# Altium schematic symbol library Capacitor.SchLib: 190 symbols (part 2 of 2)
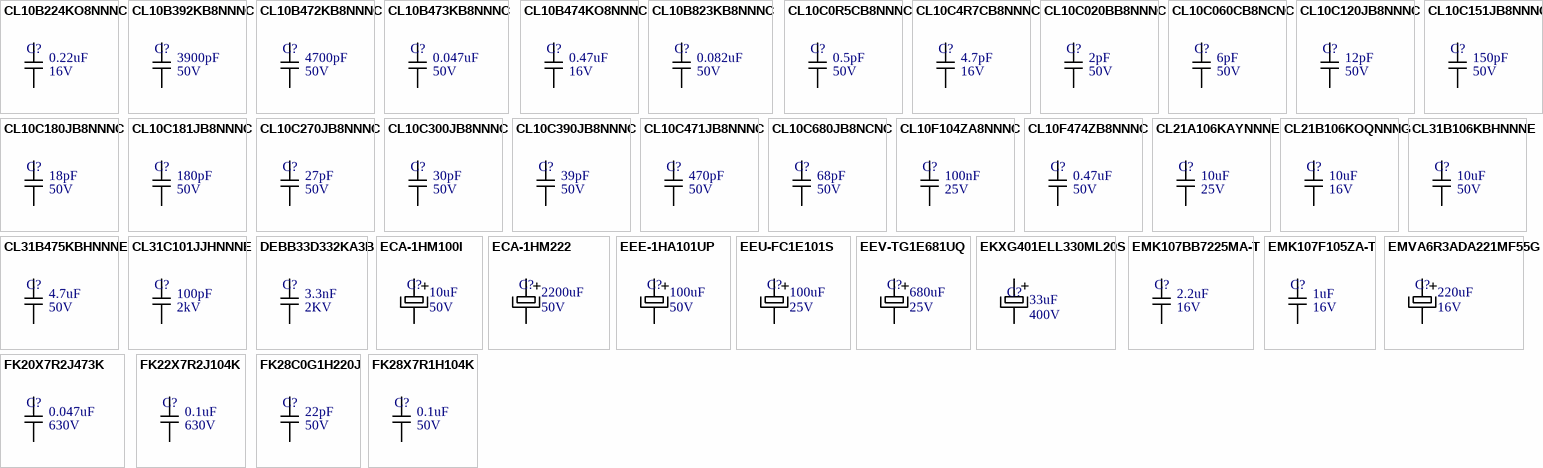
[diagram p5: symbols CL10B224KO8NNNC to FK28X7R1H104K]

## EMK107F105ZA-T
designator C?  value 1uF  Voltage: 16V  (hidden comment: EMK107F105ZA-T)
CAP CER 1UF 16V Y5V 0603; Manufacturer: Taiyo Yuden; Mount Type: SMD; Category: Ceramic; Dielectric: Y5V; Supplier 1: Mouser; Supplier 2: Digi-Key; Supplier 3: Farnell; Supplier 4: Newark; Supplier Part Number 1: 963-EMK107F105ZA-T; Supplier Part Number 2: 587-1262-1-ND; Supplier Part Number 3: 1213833; Supplier Part Number 4: 18J2658
footprint C0603_MD (Chip Capacitor, Body 1.6x0.8mm, IPC Medium Density)
pins: 1, 2

## EMVA6R3ADA221MF55G
designator C?  value 220uF  Voltage: 16V  (hidden comment: EMVA6R3ADA221MF55G)
CAP ALUM 220UF 6.3V 20% SMD; Manufacturer: Nichicon; Mount Type: SMD; Category: Aluminum; Supplier 1: Digi-Key; Supplier Part Number 1: 565-2058-1-ND
footprint CAP_EL_SMD_D (Capacitor Eletrolítico SMD Case D)
pins: +, -

## FK20X7R2J473K
designator C?  value 0.047uF  Voltage: 630V  (hidden comment: FK20X7R2J473K)
CAP CER 0.047UF 630V 10% RADIAL; Manufacturer: TDK Corporation; Dielectric: X7R; Mount Type: PTH; Category: Ceramic; Supplier 1: Newark; Supplier Part Number 1: 54W8137; Supplier 2: Mouser; Supplier Part Number 2: 810-FK20X7R2J473K; Supplier 3: Digi-Key; Supplier Part Number 3: 445-2646-ND
footprint CAP_CER_NP 0.2IN (Capacitor PTH)
pins: 1, 2

## FK22X7R2J104K
designator C?  value 0.1uF  Voltage: 630V  (hidden comment: FK22X7R2J104K)
CAP CER 0.1UF 630V 10% RADIAL; Manufacturer: TDK Corporation; Dielectric: X7R; Mount Type: PTH; Category: Ceramic
footprint CAP_CER_NP 0.2IN (Capacitor PTH)
pins: 1, 2

## FK28C0G1H220J
designator C?  value 22pF  Voltage: 50V  (hidden comment: FK28C0G1H220J)
CAP CER 22PF 50V 5% RADIAL; Manufacturer: TDK Corporation; Dielectric: NP0; Mount Type: PTH; Category: Ceramic
footprint CAP_CER_NP 0.2IN (Capacitor PTH)
pins: 1, 2

## FK28X7R1H104K
designator C?  value 0.1uF  Voltage: 50V  (hidden comment: FK28X7R1H104K)
CAP CER 0.1UF 50V 10% RADIAL; Manufacturer: TDK Corporation; Dielectric: X7R; Mount Type: PTH; Category: Ceramic; Supplier 1: Newark; Supplier Part Number 1: 44W8978; Supplier 2: Digi-Key; Supplier Part Number 2: 445-5258-ND; Supplier 3: Mouser; Supplier Part Number 3: 810-FK28X7R1H104K
footprint CAP_CER_NP 0.2IN (Capacitor PTH)
pins: 1, 2

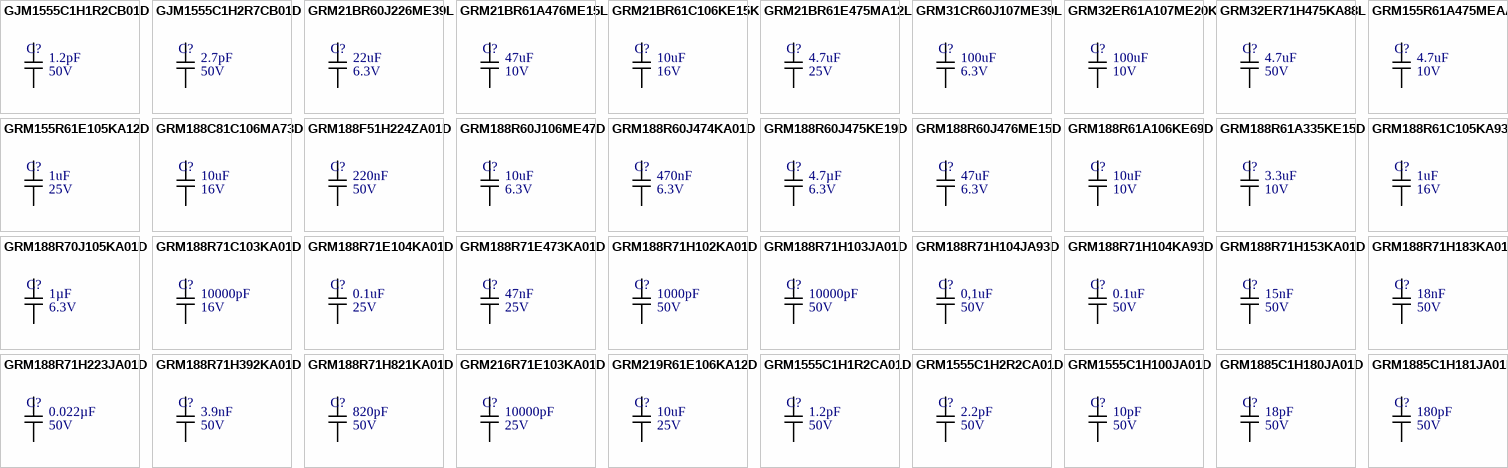
[diagram p3: symbols GJM1555C1H1R2CB01D to GRM1885C1H181JA01D]

## GJM1555C1H1R2CB01D
designator C?  value 1.2pF  Voltage: 50V  (hidden comment: GJM1555C1H1R2CB01D)
CAP CER 1.2PF 50V NP0 0402; Manufacturer: Murata Electronics North America; Mount Type: SMD; Category: Ceramic; Dielectric: NP0; Supplier 1: Digi-Key; Supplier Part Number 1: 490-3085-1-ND; Supplier 2: Mouser; Supplier Part Number 2: 81-GJM1555C1H1R2CB1D; Supplier 3: Newark; Supplier Part Number 3: 84W7938; Supplier 4: Farnell; Supplier Part Number 4: 2310300
footprint C0402_MD (Chip Capacitor, Body 1.0x0.5mm, IPC Medium Density)
pins: 1, 2

## GJM1555C1H2R7CB01D
designator C?  value 2.7pF  Voltage: 50V  (hidden comment: GJM1555C1H2R7CB01D)
CAP CER 2.7PF 50V NP0 0402; Manufacturer: Murata Electronics North America; Mount Type: SMD; Category: Ceramic; Dielectric: NP0; Supplier 1: Digi-Key; Supplier Part Number 1: 490-3093-2-ND; Supplier 2: Digi-Key; Supplier Part Number 2: 490-3093-1-ND
footprint C0402_MD (Chip Capacitor, Body 1.0x0.5mm, IPC Medium Density)
pins: 1, 2

## GRM21BR60J226ME39L
designator C?  value 22uF  Voltage: 6.3V  (hidden comment: GRM21BR60J226ME39L)
CAP CER 22UF 6.3V 20% X5R 0805; Manufacturer: Murata; Mount Type: SMD; Category: Ceramic; Dielectric: X5R; Supplier 1: Farnell; Supplier 2: Newark; Supplier 3: Mouser; Supplier 4: Arrow; Supplier 5: Digi-Key; Supplier Part Number 1: 1735531; Supplier Part Number 2: 96M1423; Supplier Part Number 3: 81-GRM21R60J226ME39L; Supplier Part Number 4: 41896953S6447286N2606; Supplier Part Number 5: 490-1719-1-ND
footprint C0805_MD (Chip Capacitor, Body 2.0x1.3mm, IPC Medium Density)
footprint C0805_HD (Chip Capacitor, Body 2.0x1.3mm, IPC High Density)
pins: 1, 2

## GRM21BR61A476ME15L
designator C?  value 47uF  Voltage: 10V  (hidden comment: GRM21BR61A476ME15L)
CAP CER 47UF 10V X5R 0805; Manufacturer: Murata Electronics North America; Mount Type: SMD; Category: Ceramic; Dielectric: X5R; Supplier 1: Farnell; Supplier Part Number 1: 2611939RL; Supplier 2: Arrow; Supplier Part Number 2: GRM21BR61A476ME15L; Supplier 3: Mouser; Supplier Part Number 3: 81-GRM21BR61A476ME5L; Supplier 4: Digikey; Supplier Part Number 4: 490-9961-1-ND
footprint C0805_MD (Chip Capacitor, Body 2.0x1.3mm, IPC Medium Density)
pins: 1, 2

## GRM21BR61C106KE15K
designator C?  value 10uF  Voltage: 16V  (hidden comment: GRM21BR61C106KE15K)
CAP CER 10UF 16V X5R 0805; Manufacturer: Murata Electronics North America; Mount Type: SMD; Category: CAP CER; Dielectric: X5R; Supplier 1: Arrow; Supplier Part Number 1: MfGS4s7yxupSyO3f7wKQyKzb4LVHSCb7zxwcFHm2v0jjRM-Xpb9FWQC1nzZCAqtM; Supplier 2: Digi-Key; Supplier Part Number 2: 490-6473-6-ND; Supplier 3: Newark; Supplier Part Number 3: 35R0687
footprint C0805_HD (Chip Capacitor, Body 2.0x1.3mm, IPC High Density)
pins: 1, 2

## GRM21BR61E475MA12L
designator C?  value 4.7uF  Voltage: 25V  (hidden comment: GRM21BR61E475MA12L)
CAP CER 4.7UF 25V 20% X5R 0805; Manufacturer: Murata; Mount Type: SMD; Category: Ceramic; Dielectric: X5R; Supplier 1: Mouser; Supplier 2: Digi-Key; Supplier Part Number 1: 81-GRM21BR61E475MA2L; Supplier Part Number 2: 490-5422-1-ND
footprint C0805_MD (Chip Capacitor, Body 2.0x1.3mm, IPC Medium Density)
pins: 1, 2

## GRM31CR60J107ME39L
designator C?  value 100uF  Voltage: 6.3V  (hidden comment: GRM31CR60J107ME39L)
CAP CER 100UF 6.3V X5R 1206; Manufacturer: Murata Electronics North America; Mount Type: SMD; Category: Ceramic; Dielectric: X5R; Supplier 1: Farnell; Supplier Part Number 1: 2611952; Supplier 2: Arrow; Supplier Part Number 2: de6w_qffGrrYJnmS_fkG9BmKuDLD2tI_UT6Z6bEXH9BirWDTtGmtott4fUuvrZ15; Supplier 3: Newark; Supplier Part Number 3: 24R6343; Supplier 4: Digi-Key; Supplier Part Number 4: 490-4539-1-ND
footprint C1206_MD (Chip Capacitor, Body 3.2x1.6mm, IPC Medium Density)
pins: 1, 2

## GRM32ER61A107ME20K
designator C?  value 100uF  Voltage: 10V  (hidden comment: GRM32ER61A107ME20K)
CAP CER 100UF 10V X5R 1210; Manufacturer: Murata Electronics North America; Mount Type: SMD; Category: Ceramic; Dielectric: X5R; Supplier 1: Digi-Key; Supplier Part Number 1: 490-14681-1-ND; Supplier 2: Mouser; Supplier Part Number 2: 81-GRM32ER61A107ME0K; Supplier 3: Arrow; Supplier Part Number 3: GRM32ER61A107ME20K; Supplier 4: Avnet; Supplier Part Number 4: GRM32ER61A107ME20K
footprint C1210_MD (Chip Capacitor, Body 3.2x2,5mm, IPC Medium Density)
pins: 1, 2

## GRM32ER71H475KA88L
designator C?  value 4.7uF  Voltage: 50V  (hidden comment: GRM32ER71H475KA88L)
CAP CER 4.7UF 50V 10% X7R 1210; Manufacturer: Yageo; Mount Type: SMD; Category: *; Dielectric: *; Supplier 1: Digi-Key; Supplier Part Number 1: 490-1864-1-ND
footprint C1210_MD (Chip Capacitor, Body 3.2x2,5mm, IPC Medium Density)
pins: 1, 2

## GRM155R61A475MEAAD
designator C?  value 4.7uF  Voltage: 10V  (hidden comment: GRM155R61A475MEAAD)
CAP CER 4.7UF 10V X5R 0402; Manufacturer: Murata Electronics; Mount Type: SMD; Category: Ceramic; Dielectric: X5R
footprint C0402_MD (Chip Capacitor, Body 1.0x0.5mm, IPC Medium Density)
pins: 1, 2

## GRM155R61E105KA12D
designator C?  value 1uF  Voltage: 25V  (hidden comment: GRM155R61E105KA12D)
CAP CER 1UF 25V X5R 0402; Manufacturer: Murata Electronics; Mount Type: SMD; Category: Ceramic; Dielectric: X5R
footprint C0402_MD (Chip Capacitor, Body 1.0x0.5mm, IPC Medium Density)
pins: 1, 2

## GRM188C81C106MA73D
designator C?  value 10uF  Voltage: 16V  (hidden comment: GRM188C81C106MA73D)
CAP CER 10UF 16V 20% X6S 0603; Manufacturer: Murata Electronics North America; Mount Type: SMD; Category: Ceramic; Dielectric: *; Supplier 1: Digi-Key; Supplier Part Number 1: 490-7198-1-ND
footprint C0603_MD (Chip Capacitor, Body 1.6x0.8mm, IPC Medium Density)
pins: 1, 2

## GRM188F51H224ZA01D
designator C?  value 220nF  Voltage: 50V  (hidden comment: GRM188F51H224ZA01D)
CAP CER 0.22UF 50V Y5V 0603; Manufacturer: Murata Electronics North America; Dielectric: Y5R; Mount Type: SMD; Category: Ceramic; Supplier 1: Mouser; Supplier 2: Digi-Key; Supplier Part Number 1: 81-GRM188F51H224ZA01; Supplier Part Number 2: 490-1569-1-ND
footprint C0603_MD (Chip Capacitor, Body 1.6x0.8mm, IPC Medium Density)
pins: 1, 2

## GRM188R60J106ME47D
designator C?  value 10uF  Voltage: 6.3V  (hidden comment: GRM188R60J106ME47D)
CAP CER 10UF 6.3V 20% X5R 0603; Manufacturer: Murata; Mount Type: SMD; Category: Ceramic; Dielectric: X5R; Supplier 1: Newark; Supplier 2: Mouser; Supplier 3: Farnell; Supplier 4: Digi-Key; Supplier Part Number 1: 24R6334; Supplier Part Number 2: 81-GRM188R60J106ME47; Supplier Part Number 3: 1833804; Supplier Part Number 4: 490-3896-1-ND
footprint C0603_MD (Chip Capacitor, Body 1.6x0.8mm, IPC Medium Density)
pins: 1, 2

## GRM188R60J474KA01D
designator C?  value 470nF  Voltage: 6.3V  (hidden comment: GRM188R60J474KA01D)
CAP CER 0.47UF 6.3V 10% X5R 0603; Manufacturer: Murata; Mount Type: SMD; Category: Ceramic; Dielectric: X5R; Supplier 1: Mouser; Supplier 2: Digi-Key; Supplier Part Number 1: 81-GRM188R60J474KA01; Supplier Part Number 2: 490-1548-1-ND
footprint C0603_MD (Chip Capacitor, Body 1.6x0.8mm, IPC Medium Density)
pins: 1, 2

## GRM188R60J475KE19D
designator C?  value 4.7µF  Voltage: 6.3V  (hidden comment: GRM188R60J475KE19D)
CAP CER 4.7UF 6.3V X5R 0603; Manufacturer: Murata Electronics North America; Mount Type: SMD; Category: Ceramic; Dielectric: X5R; Supplier 1: Digi-Key; Supplier Part Number 1: 490-3297-1-ND
footprint C0603_MD (Chip Capacitor, Body 1.6x0.8mm, IPC Medium Density)
pins: 1, 2

## GRM188R60J476ME15D
designator C?  value 47uF  Voltage: 6.3V  (hidden comment: GRM188R60J476ME15D)
CAP CER 47UF 6.3V X5R 0603; Manufacturer: Murata Electronics; Mount Type: SMD; Category: Ceramic; Dielectric: X5R
footprint C0603_MD (Chip Capacitor, Body 1.6x0.8mm, IPC Medium Density)
pins: 1, 2

## GRM188R61A106KE69D
designator C?  value 10uF  Voltage: 10V  (hidden comment: GRM188R61A106KE69D)
CAP CER 10UF 10V X5R 0603; Manufacturer: Murata Electronics North America; Mount Type: SMD; Category: Ceramic; Dielectric: X5R; Supplier 1: Newark; Supplier Part Number 1: 04X3243; Supplier 2: Arrow; Supplier Part Number 2: tmOXaZUOwqZwFBELsoaVEVsYh8deCocflpUOLM3SrSYdbDnzZoKbJoITPv75ptcC; Supplier 3: Farnell; Supplier Part Number 3: 2494233; Supplier 4: Digi-Key; Supplier Part Number 4: 490-10474-1-ND
footprint C0603_MD (Chip Capacitor, Body 1.6x0.8mm, IPC Medium Density)
pins: 1, 2

## GRM188R61A335KE15D
designator C?  value 3.3uF  Voltage: 10V  (hidden comment: GRM188R61A335KE15D)
CAP CER 3.3UF 10V 10% X5R 0603; Manufacturer: Murata; Mount Type: SMD; Category: Ceramic; Dielectric: X5R; Supplier 1: Digi-Key; Supplier 2: Mouser; Supplier Part Number 1: 490-6411-1-ND; Supplier Part Number 2: 81-GRM188R61A335KE5D
footprint C0603_MD (Chip Capacitor, Body 1.6x0.8mm, IPC Medium Density)
pins: 1, 2

## GRM188R61C105KA93D
designator C?  value 1uF  Voltage: 16V  (hidden comment: GRM188R61C105KA93D)
CAP CER 1UF 16V X5R 0603; Manufacturer: Murata Electronics North America; Mount Type: SMD; Category: Ceramic; Dielectric: X5R; Supplier 1: Digi-Key; Supplier Part Number 1: 490-1536-1-ND
footprint C0603_MD (Chip Capacitor, Body 1.6x0.8mm, IPC Medium Density)
pins: 1, 2

## GRM188R70J105KA01D
designator C?  value 1µF  Voltage: 6.3V  (hidden comment: GRM188R70J105KA01D)
CAP CER 1UF 6.3V X7R 0603; Manufacturer: Murata Electronics North America; Mount Type: SMD; Category: Ceramic; Dielectric: X7R; Supplier 1: Digi-Key; Supplier Part Number 1: 490-3898-1-ND
footprint C0603_MD (Chip Capacitor, Body 1.6x0.8mm, IPC Medium Density)
pins: 1, 2

## GRM188R71C103KA01D
designator C?  value 10000pF  Voltage: 16V  (hidden comment: GRM188R71C103KA01D)
CAP CER 10000PF 16V 10% X7R 0603; Manufacturer: Murata; Mount Type: SMD; Category: Ceramic; Dielectric: X7R; Supplier 1: Mouser; Supplier 2: Digi-Key; Supplier Part Number 1: 81-GRM18R71C103KA01D; Supplier Part Number 2: 490-1525-1-ND
footprint C0603_MD (Chip Capacitor, Body 1.6x0.8mm, IPC Medium Density)
pins: 1, 2

## GRM188R71E104KA01D
designator C?  value 0.1uF  Voltage: 25V  (hidden comment: GRM188R71E104KA01D)
CAP CER 0.1UF 25V X7R 0603; Manufacturer: Murata Electronics North America; Mount Type: SMD; Category: Ceramic; Dielectric: X7R; Supplier 1: Digi-Key; Supplier Part Number 1: 490-1524-1-ND
footprint C0603_MD (Chip Capacitor, Body 1.6x0.8mm, IPC Medium Density)
pins: 1, 2

## GRM188R71E473KA01D
designator C?  value 47nF  Voltage: 25V  (hidden comment: GRM188R71E473KA01D)
CAP CER 0.047UF 25V 10% X7R 0603; Manufacturer: Murata; Mount Type: SMD; Category: Ceramic; Dielectric: X7R; Supplier 1: Newark; Supplier 2: Mouser; Supplier 3: Farnell; Supplier 4: Digi-Key; Supplier Part Number 1: 38K1667; Supplier Part Number 2: 81-GRM39X473K25D; Supplier Part Number 3: 1118180; Supplier Part Number 4: 490-1522-1-ND
footprint C0603_MD (Chip Capacitor, Body 1.6x0.8mm, IPC Medium Density)
pins: 1, 2

## GRM188R71H102KA01D
designator C?  value 1000pF  Voltage: 50V  (hidden comment: GRM188R71H102KA01D)
CAP CER 1000PF 50V 10% X7R 0603; Manufacturer: Murata Electronics North America; Mount Type: SMD; Category: Ceramic; Dielectric: X7R; Supplier 1: Digi-Key; Supplier 2: Farnell; Supplier 3: Mouser; Supplier 4: Newark; Supplier Part Number 1: 490-1494-1-ND; Supplier Part Number 2: 2280879; Supplier Part Number 3: 81-GRM39X102K050; Supplier Part Number 4: 09J2480
footprint C0603_MD (Chip Capacitor, Body 1.6x0.8mm, IPC Medium Density)
pins: 1, 2

## GRM188R71H103JA01D
designator C?  value 10000pF  Voltage: 50V  (hidden comment: GRM188R71H103JA01D)
CAP CER 10000PF 50V X7R 0603; Manufacturer: Murata Electronics North America; Mount Type: SMD; Category: Ceramic; Dielectric: X7R; Supplier 1: Digi-Key; Supplier Part Number 1: 490-9734-1-ND
footprint C0603_MD (Chip Capacitor, Body 1.6x0.8mm, IPC Medium Density)
pins: 1, 2

## GRM188R71H104JA93D
designator C?  value 0,1uF  Voltage: 50V  (hidden comment: GRM188R71H104JA93D)
CAP CER 0.1UF 50V X7R 0603; Manufacturer: Murata Electronics North America; Mount Type: SMD; Category: Ceramic; Dielectric: X7R; Supplier 1: Digi-Key; Supplier Part Number 1: 490-13406-1-ND
footprint C0603_MD (Chip Capacitor, Body 1.6x0.8mm, IPC Medium Density)
pins: 1, 2

## GRM188R71H104KA93D
designator C?  value 0.1uF  Voltage: 50V  (hidden comment: GRM188R71H104KA93D)
CAP CER 0.1UF 50V 10% X7R 0603; Manufacturer: Murata; Mount Type: SMD; Category: Ceramic; Dielectric: X7R; Supplier 1: Newark; Supplier 2: Digi-Key; Supplier 3: Farnell; Supplier 4: Mouser; Supplier Part Number 1: 38K1670; Supplier Part Number 2: 490-1519-1-ND; Supplier Part Number 3: 1856385; Supplier Part Number 4: 81-GRM39X104K50D
footprint C0603_MD (Chip Capacitor, Body 1.6x0.8mm, IPC Medium Density)
pins: 1, 2

## GRM188R71H153KA01D
designator C?  value 15nF  Voltage: 50V  (hidden comment: GRM188R71H153KA01D)
CAP CER 0.015UF 50V 10% X7R 0603; Manufacturer: Murata; Mount Type: SMD; Category: Ceramic; Dielectric: X7R; Supplier 1: Farnell; Supplier 2: Digi-Key; Supplier 3: Mouser; Supplier 4: Newark; Supplier Part Number 1: 1828916; Supplier Part Number 2: 490-1514-1-ND; Supplier Part Number 3: 81-GRM18R71H153KA01D; Supplier Part Number 4: 14T3321
footprint C0603_MD (Chip Capacitor, Body 1.6x0.8mm, IPC Medium Density)
pins: 1, 2

## GRM188R71H183KA01D
designator C?  value 18nF  Voltage: 50V  (hidden comment: GRM188R71H183KA01D)
CAP CER 0.018UF 50V 10% X7R 0603; Manufacturer: Murata; Mount Type: SMD; Category: Ceramic; Dielectric: X7R; Supplier 1: Digi-Key; Supplier 2: Mouser; Supplier Part Number 1: 490-1516-1-ND; Supplier Part Number 2: 81-GRM39X183K50D
footprint C0603_MD (Chip Capacitor, Body 1.6x0.8mm, IPC Medium Density)
pins: 1, 2

## GRM188R71H223JA01D
designator C?  value 0.022µF  Voltage: 50V  (hidden comment: GRM188R71H223JA01D)
CAP CER 0.022UF 50V X7R 0603; Manufacturer: Murata Electronics North America; Mount Type: SMD; Category: Ceramic; Dielectric: X7R; Supplier 1: Digi-Key; Supplier Part Number 1: 490-14377-1-ND
footprint C0603_MD (Chip Capacitor, Body 1.6x0.8mm, IPC Medium Density)
pins: 1, 2

## GRM188R71H392KA01D
designator C?  value 3.9nF  Voltage: 50V  (hidden comment: GRM188R71H392KA01D)
CAP CER 3900PF 50V 10% X7R 0603; Manufacturer: Murata; Mount Type: SMD; Category: Ceramic; Dielectric: X7R; Supplier 1: Digi-Key; Supplier 2: Mouser; Supplier Part Number 1: 490-1504-1-ND; Supplier Part Number 2: 81-GRM39X392K50D
footprint C0603_MD (Chip Capacitor, Body 1.6x0.8mm, IPC Medium Density)
pins: 1, 2

## GRM188R71H821KA01D
designator C?  value 820pF  Voltage: 50V  (hidden comment: GRM188R71H821KA01D)
CAP CER 820PF 50V 10% X7R 0603; Manufacturer: Murata; Mount Type: SMD; Category: Ceramic; Dielectric: X7R; Supplier 1: Digi-Key; Supplier 2: Mouser; Supplier Part Number 1: 490-1493-1-ND; Supplier Part Number 2: 81-GRM39X821K50D
footprint C0603_MD (Chip Capacitor, Body 1.6x0.8mm, IPC Medium Density)
pins: 1, 2

## GRM216R71E103KA01D
designator C?  value 10000pF  Voltage: 25V  (hidden comment: GRM216R71E103KA01D)
CAP CER 10000PF 25V X7R 0805; Manufacturer: Murata Electronics North America; Mount Type: SMD; Category: Capacitor; Dielectric: X7R; Supplier 1: Digi-Key; Supplier Part Number 1: 490-12748-6-ND
footprint C0805_HD (Chip Capacitor, Body 2.0x1.3mm, IPC High Density)
pins: 1, 2

## GRM219R61E106KA12D
designator C?  value 10uF  Voltage: 25V  (hidden comment: GRM219R61E106KA12D)
CAP CER 10UF 25V 10% X5R 0805; Manufacturer: Murata; Mount Type: SMD; Category: Ceramic; Dielectric: X5R; Supplier 1: Digi-Key; Supplier Part Number 1: 490-7207-1-ND
footprint C0805_MD (Chip Capacitor, Body 2.0x1.3mm, IPC Medium Density)
pins: 1, 2

## GRM1555C1H1R2CA01D
designator C?  value 1.2pF  Voltage: 50V  (hidden comment: GRM1555C1H1R2CA01D)
CAP CER 1.2PF 50V NP0 0402; Manufacturer: Murata Electronics North America; Mount Type: SMD; Category: Ceramic; Dielectric: NP0; Supplier 1: Newark; Supplier Part Number 1: 48W5733; Supplier 2: Digi-Key; Supplier Part Number 2: 490-5927-1-ND; Supplier 3: Farnell; Supplier Part Number 3: 2218843; Supplier 4: Mouser; Supplier Part Number 4: 81-GRM1555C1H1R2CA1D
footprint C0402_HD (Chip Capacitor, Body 1.0x0.5mm, IPC High Density)
pins: 1, 2

## GRM1555C1H2R2CA01D
designator C?  value 2.2pF  Voltage: 50V  (hidden comment: GRM1555C1H2R2CA01D)
CAP CER 2.2PF 50V NP0 0402; Manufacturer: Murata Electronics North America; Mount Type: SMD; Category: Ceramic; Dielectric: NP0; Supplier 1: Farnell; Supplier Part Number 1: 2434609; Supplier 2: Newark; Supplier Part Number 2: 80X8562; Supplier 3: Mouser; Supplier Part Number 3: 81-GRM1555C1H2R2CA1D; Supplier 4: Digi-Key; Supplier Part Number 4: 490-5932-1-ND
footprint C0402_HD (Chip Capacitor, Body 1.0x0.5mm, IPC High Density)
pins: 1, 2

## GRM1555C1H100JA01D
designator C?  value 10pF  Voltage: 50V  (hidden comment: GRM1555C1H100JA01D)
CAP CER 10PF 50V C0G/NP0 0402; Manufacturer: Murata Electronics North America; Dielectric: X5R; Mount Type: SMD; Category: Ceramic; Supplier 1: Arrow; Supplier 2: Digi-Key; Supplier 3: Newark; Supplier 4: Farnell; Supplier Part Number 1: GRM1555C1H100JA01D**MULT; Supplier Part Number 2: 490-5921-1-ND; Supplier Part Number 3: 48W5737; Supplier Part Number 4: 2218834
footprint C0402_MD (Chip Capacitor, Body 1.0x0.5mm, IPC Medium Density)
pins: 1, 2

## GRM1885C1H180JA01D
designator C?  value 18pF  Voltage: 50V  (hidden comment: GRM1885C1H180JA01D)
CAP CER 18PF 50V C0G/NP0 0603; Manufacturer: Murata Electronics North America; Dielectric: C0G, NP0; Mount Type: SMD; Category: Ceramic; Supplier 1: Digi-Key; Supplier Part Number 1: 490-1409-1-ND
footprint C0603_MD (Chip Capacitor, Body 1.6x0.8mm, IPC Medium Density)
pins: 1, 2

## GRM1885C1H181JA01D
designator C?  value 180pF  Voltage: 50V  (hidden comment: GRM1885C1H181JA01D)
CAP CER 180PF 50V 5% NP0 0603; Manufacturer: Murata; Mount Type: SMD; Category: Ceramic; Dielectric: NP0; Supplier 1: Mouser; Supplier 2: Digi-Key; Supplier Part Number 1: 81-GRM39C181J50; Supplier Part Number 2: 490-1433-1-ND
footprint C0603_MD (Chip Capacitor, Body 1.6x0.8mm, IPC Medium Density)
pins: 1, 2

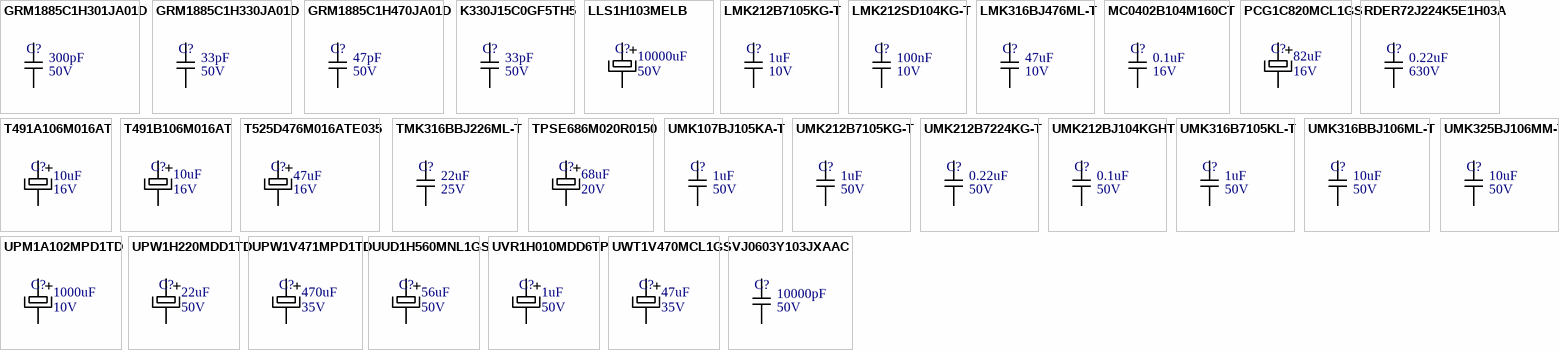
[diagram p4: symbols GRM1885C1H301JA01D to VJ0603Y103JXAAC]

## GRM1885C1H301JA01D
designator C?  value 300pF  Voltage: 50V  (hidden comment: GRM1885C1H301JA01D)
CAP CER 300PF 50V 5% NP0 0603; Manufacturer: Murata Electronics North America; Mount Type: SMD; Category: Ceramic; Dielectric: *; Supplier 1: Digi-Key; Supplier Part Number 1: 490-1438-1-ND
footprint C0603_MD (Chip Capacitor, Body 1.6x0.8mm, IPC Medium Density)
pins: 1, 2

## GRM1885C1H330JA01D
designator C?  value 33pF  Voltage: 50V  (hidden comment: GRM1885C1H330JA01D)
CAP CER 33PF 50V 5% NP0 0603; Manufacturer: Murata; Mount Type: SMD; Category: Ceramic; Dielectric: NP0; Supplier 1: Newark; Supplier 2: Mouser; Supplier 3: Digi-Key; Supplier 4: Farnell; Supplier Part Number 1: 14T3332; Supplier Part Number 2: 81-GRM39C330J50; Supplier Part Number 3: 490-1415-1-ND; Supplier Part Number 4: 1828910
footprint C0603_MD (Chip Capacitor, Body 1.6x0.8mm, IPC Medium Density)
pins: 1, 2

## GRM1885C1H470JA01D
designator C?  value 47pF  Voltage: 50V  (hidden comment: GRM1885C1H470JA01D)
CAP CER 47PF 50V 5% NP0 0603; Manufacturer: Murata Electronics North America; Mount Type: SMD; Category: Ceramic; Dielectric: *; Supplier 1: Digi-Key; Supplier Part Number 1: 490-1419-1-ND
footprint C0603_MD (Chip Capacitor, Body 1.6x0.8mm, IPC Medium Density)
pins: 1, 2

## K330J15C0GF5TH5
designator C?  value 33pF  Voltage: 50V  (hidden comment: K330J15C0GF5TH5)
CAP CER 33PF 50V NP0 RADIAL; Manufacturer: Vishay BC Components; Mount Type: PTH; Category: Ceramic Capacitors; Dielectric: NP0; Supplier 1: Farnell; Supplier 2: Newark; Supplier 3: Mouser; Supplier 4: Digi-Key; Supplier Part Number 1: 3322610; Supplier Part Number 2: 95C1045; Supplier Part Number 3: 594-K330J15C0GF5TH5; Supplier Part Number 4: BC1036CT-ND
footprint CAP_CER_DISK 0.1 (Capacitor PTH)
pins: 1, 2

## LLS1H103MELB
designator C?  value 10000uF  Voltage: 50V  (hidden comment: LLS1H103MELB)
10000µF 50V Aluminum Capacitors Radial, Can - Snap-In 3000 Hrs @ 85°C; Manufacturer: Nichicon; Mount Type: PTH; Category: Aluminum; Supplier 1: Farnell; Supplier Part Number 1: 2333492; Supplier 2: Newark; Supplier Part Number 2: 97M5106; Supplier 3: Digi-Key; Supplier Part Number 3: 493-6156-ND
footprint CAP_EL_10X30.0MM (Capacitor Eletrolítico PTH)
pins: +, -

## LMK212B7105KG-T
designator C?  value 1uF  Voltage: 10V  (hidden comment: LMK212B7105KG-T)
CAP CER 1UF 10V 10% X7R 0805; Manufacturer: Taiyo Yuden; Mount Type: SMD; Category: Ceramic; Dielectric: X7R; Supplier 1: Digi-Key; Supplier 2: Newark; Supplier 3: Farnell; Supplier 4: Mouser; Supplier Part Number 1: 587-1285-1-ND; Supplier Part Number 2: 77M8470; Supplier Part Number 3: 1683678; Supplier Part Number 4: N/A
footprint C0805_HD (Chip Capacitor, Body 2.0x1.3mm, IPC High Density)
footprint C0805_MD (Chip Capacitor, Body 2.0x1.3mm, IPC Medium Density)
pins: 1, 2

## LMK212SD104KG-T
designator C?  value 100nF  Voltage: 10V  (hidden comment: LMK212SD104KG-T)
CAP CER 0.1UF 10V 10% 0805; Manufacturer: Taiyo Yuden; Mount Type: SMD; Category: Ceramic; Dielectric: *
footprint C0805_HD (Chip Capacitor, Body 2.0x1.3mm, IPC High Density)
footprint C0805_MD (Chip Capacitor, Body 2.0x1.3mm, IPC Medium Density)
pins: 1, 2

## LMK316BJ476ML-T
designator C?  value 47uF  Voltage: 10V  (hidden comment: LMK316BJ476ML-T)
CAP CER 47UF 10V X5R 1206; Manufacturer: Taiyo Yuden; Mount Type: SMD; Category: Ceramic; Dielectric: X5R; Supplier 1: Digikey; Supplier Part Number 1: 587-1780-1-ND; Supplier 2: Newark; Supplier Part Number 2: 42M3489; Supplier 3: Mouser; Supplier Part Number 3: 963-LMK316BJ476ML-T; Supplier 4: Arrow; Supplier Part Number 4: LMK316BJ476ML-T**MULT1; Supplier 5: Farnell; Supplier Part Number 5: 2363427
footprint C1206_MD (Chip Capacitor, Body 3.2x1.6mm, IPC Medium Density)
pins: 1, 2

## MC0402B104M160CT
designator C?  value 0.1uF  Voltage: 16V  (hidden comment: MC0402B104M160CT)
CAP, 0.1µF, 16V, 20%, X7R, 0402; Manufacturer: MULTICOMP PRO; Tolerance: +-20%; Mount Type: SMD; Category: Ceramic; Dielectric: X7R; Supplier 1: Newark; Supplier Part Number 1: 97Y2073
footprint C0402_MD (Chip Capacitor, Body 1.0x0.5mm, IPC Medium Density)
pins: 1, 2

## PCG1C820MCL1GS
designator C?  value 82uF  Voltage: 16V  (hidden comment: PCG1C820MCL1GS)
CAP ALUM 82UF 16V 20% SMD; Manufacturer: Nichicon; Mount Type: SMD; Category: Aluminum; Supplier 1: Digi-Key; Supplier Part Number 1: 493-3096-1-ND
footprint CAP_EL_SMD_D (Capacitor Eletrolítico SMD Case D)
pins: +, -

## RDER72J224K5E1H03A
designator C?  value 0.22uF  Voltage: 630V  (hidden comment: RDER72J224K5E1H03A)
CAP CER 0.22UF 630V 10% RADIAL; Manufacturer: Murata Electronics North America; Dielectric: X7R; Mount Type: PTH; Category: Ceramic; Supplier 1: Mouser; Supplier Part Number 1: 81-RDER72J224K5E1H3A; Supplier 2: Digi-Key; Supplier Part Number 2: 490-9264-1-ND
footprint CAP_CER_NP 0.2IN (Capacitor PTH)
pins: 1, 2

## T491A106M016AT
designator C?  value 10uF  Voltage: 16V  (hidden comment: T491A106M016AT)
CAP TANT 10UF 16V 20% 1206; Manufacturer: Kemet; Mount Type: SMD; Category: Tantalum; Dielectric: *; Supplier 1: Digi-Key; Supplier Part Number 1: 399-3687-1-ND
footprint CAP_TANT_SMD_A (Capacitor Tantalo SMD Case A)
pins: +, -

## T491B106M016AT
designator C?  value 10uF  Voltage: 16V  (hidden comment: T491B106M016AT)
CAP TANT 10UF 16V 20% 1411; Manufacturer: Kemet; Mount Type: SMD; Category: Tantalum; Supplier 1: Digi-Key; Supplier 2: Mouser; Supplier 3: Newark; Supplier Part Number 1: 399-3708-1-ND; Supplier Part Number 2: 80-T491B106M016; Supplier Part Number 3: 57K1745
footprint CAP_TANT_SMD_B (Capacitor Tantalo SMD Case B)
pins: +, -

## T525D476M016ATE035
designator C?  value 47uF  Voltage: 16V  (hidden comment: T525D476M016ATE035)
CAP TANT POLY 47UF 16V 2917 35 mOhm; Manufacturer: KEMET; Mount Type: SMD; Category: TANT POLY; Dielectric: TANT; Supplier 1: Newark; Supplier Part Number 1: 87H4643; Supplier 2: Digi-Key; Supplier Part Number 2: 399-3284-1-ND
footprint CAP_TANT_SMD_E (Capacitor Tantalo SMD Case E)
pins: +, -

## TMK316BBJ226ML-T
designator C?  value 22uF  Voltage: 25V  (hidden comment: TMK316BBJ226ML-T)
CAP CER 22UF 25V 20% X5R 1206; Manufacturer: Taiyo Yuden; Mount Type: SMD; Category: Ceramic; Dielectric: *; Supplier 1: Digi-Key; Supplier Part Number 1: 587-3246-1-ND
footprint C1206_MD (Chip Capacitor, Body 3.2x1.6mm, IPC Medium Density)
pins: 1, 2

## TPSE686M020R0150
designator C?  value 68uF  Voltage: 20V  (hidden comment: TPSE686M020R0150)
CAP TANT 68UF 20V 20% 2917; Manufacturer: AVX Corporation; Mount Type: SMD; Category: CAP TANT; Supplier 1: Digi-Key; Supplier Part Number 1: 478-4151-2-ND
footprint CAP_TANT_SMD_E (Capacitor Tantalo SMD Case E)
pins: +, -

## UMK107BJ105KA-T
designator C?  value 1uF  Voltage: 50V  (hidden comment: UMK107BJ105KA-T)
CAP CER 1UF 50V 10% X5R 0603; Manufacturer: Taiyo Yuden; Mount Type: SMD; Category: *; Dielectric: *; Supplier 1: Digi-Key; Supplier Part Number 1: 587-2400-1-ND
footprint C0603_MD (Chip Capacitor, Body 1.6x0.8mm, IPC Medium Density)
pins: 1, 2

## UMK212B7105KG-T
designator C?  value 1uF  Voltage: 50V  (hidden comment: UMK212B7105KG-T)
CAP CER 1UF 50V X7R 0805; Manufacturer: Taiyo Yuden; Mount Type: SMD; Category: Ceramic Capacitor; Dielectric: X7R; Supplier 1: Digi-Key; Supplier Part Number 1: 587-2910-1-ND; Supplier 2: Farnell; Supplier Part Number 2: 2464630; Supplier 3: Newark; Supplier Part Number 3: 47T1712
footprint C0805_HD (Chip Capacitor, Body 2.0x1.3mm, IPC High Density)
pins: 1, 2

## UMK212B7224KG-T
designator C?  value 0.22uF  Voltage: 50V  (hidden comment: UMK212B7224KG-T)
CAP CER 0.22UF 50V X7R 0805; Manufacturer: Taiyo Yuden; Dielectric: CERAMIC; Mount Type: SMD; Category: X7R; Supplier 1: Farnell; Supplier Part Number 1: 2392359; Supplier 2: Digi-Key; Supplier Part Number 2: 587-1287-6-ND; Supplier 3: Farnell; Supplier Part Number 3: 2666568
footprint C0805_MD (Chip Capacitor, Body 2.0x1.3mm, IPC Medium Density)
pins: 1, 2

## UMK212BJ104KGHT
designator C?  value 0.1uF  Voltage: 50V  (hidden comment: UMK212BJ104KGHT)
CAP CER 0.1UF 50V X5R 0805; Manufacturer: Taiyo Yuden; Mount Type: SMD; Category: Ceramic Capacitor; Dielectric: X5R; Supplier 1: Newark; Supplier Part Number 1: 68X1782; Supplier 2: Digi-Key; Supplier Part Number 2: 587-3512-1-ND
footprint C0805_MD (Chip Capacitor, Body 2.0x1.3mm, IPC Medium Density)
pins: 1, 2

## UMK316B7105KL-T
designator C?  value 1uF  Voltage: 50V  (hidden comment: UMK316B7105KL-T)
CAP CER 1UF 50V X7R 1206; Manufacturer: Taiyo Yuden; Mount Type: SMD; Category: CAP; Dielectric: CER; Supplier 1: Farnell; Supplier Part Number 1: 1458913; Supplier 2: Newark; Supplier Part Number 2: 84R9164; Supplier 3: Digi-Key; Supplier Part Number 3: 587-2230-1-ND
footprint C1206_MD (Chip Capacitor, Body 3.2x1.6mm, IPC Medium Density)
pins: 1, 2

## UMK316BBJ106ML-T
designator C?  value 10uF  Voltage: 50V  (hidden comment: UMK316BBJ106ML-T)
CAP CER 10UF 50V X5R 1206; Manufacturer: Taiyo Yuden; Mount Type: SMD; Category: Capacitor; Dielectric: CER; Supplier 1: Digi-Key; Supplier Part Number 1: 587-3248-1-ND; Supplier 2: Digi-Key; Supplier Part Number 2: 587-3248-6-ND; Supplier 3: Farnell; Supplier Part Number 3: 2779059; Supplier 4: Newark; Supplier Part Number 4: 29X1409
footprint C1210_MD (Chip Capacitor, Body 3.2x2,5mm, IPC Medium Density)
footprint C1206_MD (Chip Capacitor, Body 3.2x1.6mm, IPC Medium Density)
pins: 1, 2

## UMK325BJ106MM-T
designator C?  value 10uF  Voltage: 50V  (hidden comment: UMK325BJ106MM-T)
CAP CER 10UF 50V X5R 1210; Manufacturer: Taiyo Yuden; Mount Type: SMD; Category: Capacitor; Dielectric: CER; Supplier 1: Newark; Supplier Part Number 1: 08P5202; Supplier 2: Farnell; Supplier Part Number 2: 1683595; Supplier 3: Digi-Key; Supplier Part Number 3: 587-2225-6-ND
footprint C1210_MD (Chip Capacitor, Body 3.2x2,5mm, IPC Medium Density)
pins: 1, 2

## UPM1A102MPD1TD
designator C?  value 1000uF  Voltage: 10V  (hidden comment: UPM1A102MPD1TD)
CAP ALUM 1000UF 20% 10V RADIAL; Manufacturer: Nichicon; Mount Type: PTH; Category: Eletrolitical; Supplier 1: Newark; Supplier 2: Farnell; Supplier 3: Digi-Key; Supplier Part Number 1: 65R3529; Supplier Part Number 2: 2479369; Supplier Part Number 3: 493-11904-1-ND
footprint CAP_EL_7.5X16.0MM (Capacitor Eletrolítico PTH)
pins: +, -

## UPW1H220MDD1TD
designator C?  value 22uF  Voltage: 50V  (hidden comment: UPW1H220MDD1TD)
CAP ALUM 22UF 20% 50V RADIAL; Manufacturer: Nichicon; Mount Type: PTH; Category: Eletrolitical; Supplier 1: Newark; Supplier 2: Mouser; Supplier 3: Digi-Key; Supplier Part Number 1: 65R4110; Supplier Part Number 2: 647-UPW1H220MDD1TD; Supplier Part Number 3: 493-11357-1-ND
footprint CAP_EL_2.0x5.0MM (Capacitor Eletrolítico PTH)
pins: +, -

## UPW1V471MPD1TD
designator C?  value 470uF  Voltage: 35V  (hidden comment: UPW1V471MPD1TD)
CAP ALUM 470UF 20% 35V RADIAL; Manufacturer: Nichicon; Mount Type: PTH; Category: Eletrolitical; Supplier 1: Farnell; Supplier 2: Newark; Supplier 3: Mouser; Supplier 4: Digi-Key; Supplier Part Number 1: 1818654; Supplier Part Number 2: 65R4249; Supplier Part Number 3: 647-UPW1V471MPD1TD; Supplier Part Number 4: 493-11916-1-ND
footprint CAP_EL_5X10MM (Capacitor Eletrolítico PTH)
pins: +, -

## UUD1H560MNL1GS
designator C?  value 56uF  Voltage: 50V  (hidden comment: UUD1H560MNL1GS)
56µF 50V Aluminum Capacitors Radial, Can - SMD 5000 Hrs @ 105°C; Manufacturer: Nichicon; Mount Type: SMD; Category: Aluminum; Supplier 1: Newark; Supplier Part Number 1: 55K1056; Supplier 2: Digi-Key; Supplier Part Number 2: 493-2304-1-ND
footprint CAP_EL_SMD_F (Capacitor Eletrolítico SMD Case F)
pins: +, -

## UVR1H010MDD6TP
designator C?  value 1uF  Voltage: 50V  (hidden comment: UVR1H010MDD6TP)
CAP ALUM 1UF 20% 50V RADIAL; Manufacturer: Nichicon; Mount Type: PTH; Category: Aluminum Capacitors; Supplier 1: Digi-Key; Supplier 2: Mouser; Supplier Part Number 1: 493-12782-1-ND; Supplier Part Number 2: 647-UVR1H010MDD6TP
footprint CAP_EL_2.0x5.0MM (Capacitor Eletrolítico PTH)
pins: +, -

## UWT1V470MCL1GS
designator C?  value 47uF  Voltage: 35V  (hidden comment: UWT1V470MCL1GS)
47µF 35V Aluminum Capacitors Radial, Can - SMD 1000 Hrs @ 105°C; Manufacturer: Nichicon; Mount Type: SMD; Category: Aluminum; Supplier 1: Digi-Key; Supplier Part Number 1: 493-2202-1-ND; Supplier 2: Newark; Supplier Part Number 2: 58R3600; Supplier 3: Farnell; Supplier Part Number 3: 1823602
footprint CAP_EL_SMD_D (Capacitor Eletrolítico SMD Case D)
pins: +, -

## VJ0603Y103JXAAC
designator C?  value 10000pF  Voltage: 50V  (hidden comment: VJ0603Y103JXAAC)
CAP CER 10000PF 50V X7R 0603; Manufacturer: Vishay Vitramon; Mount Type: SMD; Category: Cap Ceramic; Dielectric: X7R; Supplier 1: Digi-Key; Supplier Part Number 1: 720-1375-1-ND
footprint C0603_HD (Chip Capacitor, Body 1.6x0.8mm, IPC High Density)
pins: 1, 2